# Altium footprint library MCU.PcbLib: 1 footprints
Each footprint in its own frame and in the unit in brackets; x right, y up, seen from the top. Pads: shape width x height; smd on the part's side, far side on the other; paste and mask are expansions set on the pad; w line width, h text height; cw(c..) or ccw(c..) is an arc to the next point about the centre after c.
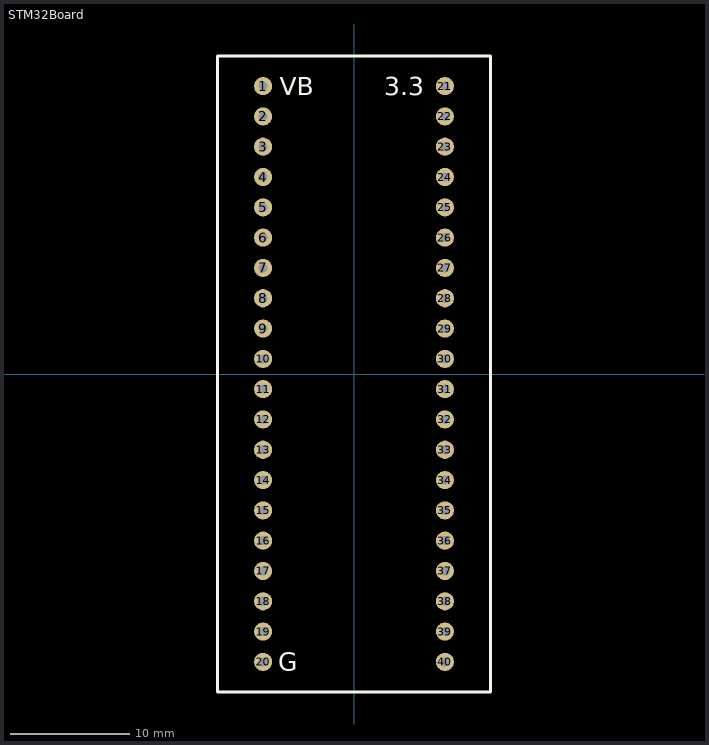
[diagram p0: the footprint, top view; thin cyan lines are the x and y axes]

## STM32Board [mil] "STM32 board"
pads (40):
  round 60 hole 30: 1(-300,950) 2(-300,850) 3(-300,750) 4(-300,650) 5(-300,550) 6(-300,450) 7(-300,350) 8(-300,250) 9(-300,150) 10(-300,50) 11(-300,-50) 12(-300,-150) 13(-300,-250) 14(-300,-350) 15(-300,-450) 16(-300,-550) 17(-300,-650) 18(-300,-750) 19(-300,-850) 20(-300,-950) 21(300,950) 22(300,850) 23(300,750) 24(300,650) 25(300,550) 26(300,450) 27(300,350) 28(300,250) 29(300,150) 30(300,50) 31(300,-50) 32(300,-150) 33(300,-250) 34(300,-350) 35(300,-450) 36(300,-550) 37(300,-650) 38(300,-750) 39(300,-850) 40(300,-950)
Top Overlay:
  lines w10: -450,-1050 350,-1050 450,-1050 450,950 450,1050 -450,1050 -450,-950 -450,-1050
  text "3.3" at 100,920 h60
  text "G" at -250,-980 h60
  text "VB" at -245,920 h60